# EAGLE library part AD8421 (library differential-buffer)
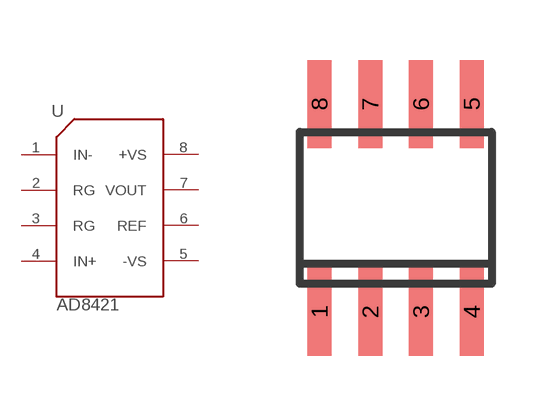
[diagram p0: symbol with the pads of SOIC-8; footprint SOIC-8]

Designator prefix U

## AD8421  [SOIC-8]
1  IN-
2  RG
3  RG
4  IN+
5  -VS
6  REF
7  VOUT
8  +VS

## Footprint SOIC-8 (pad centres in mm)
smd 0.6 x 2.2: 1 -1.905,-2.6; 2 -0.635,-2.6; 3 0.635,-2.6; 4 1.905,-2.6; 5 1.905,2.6; 6 0.635,2.6; 7 -0.635,2.6; 8 -1.905,2.6